# EAGLE library part PSOC_5LP_100QFP (library new-pca9306)
Cypress PSOC 5LP, 100-pin package We use the CY8C5868AXI-LP035, which has the "full" feature set: - 256k flash - 64k SRAM - 2k EEPROM - CAN - Full-speed USB - 67MHz operation
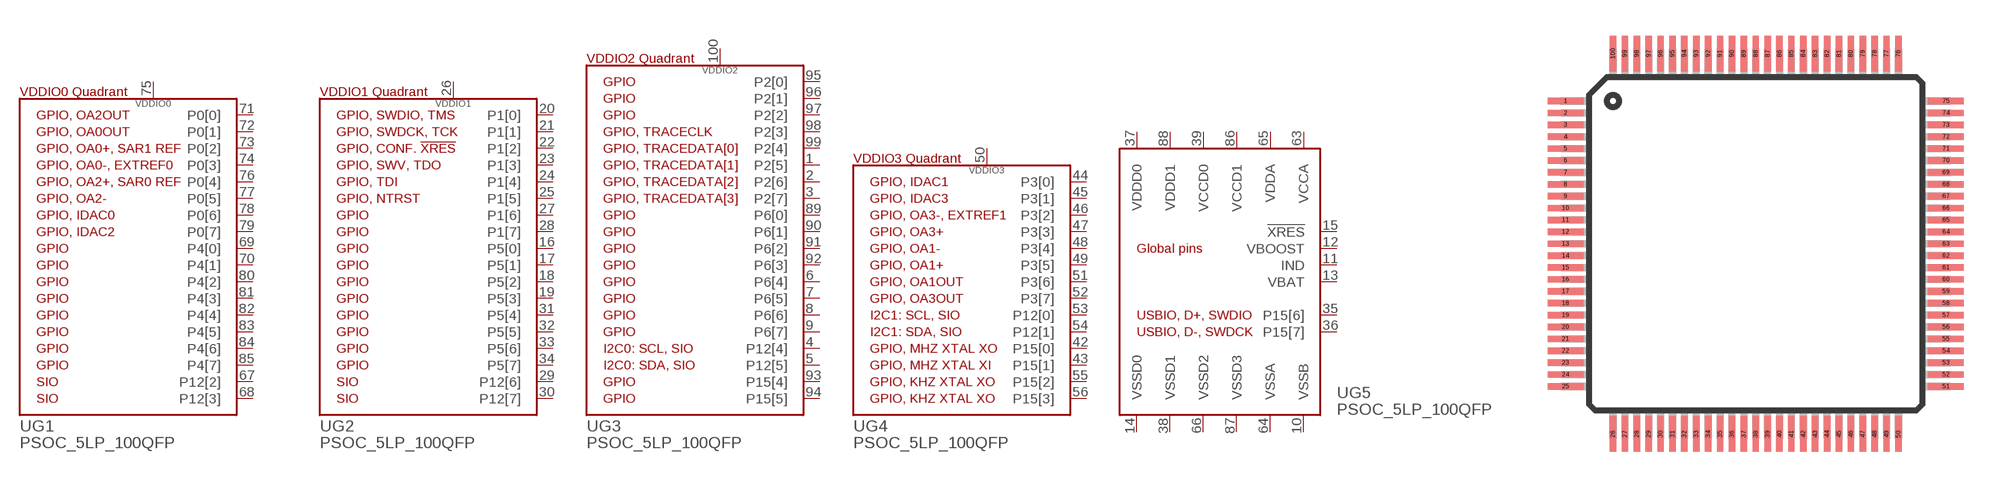
[diagram p112: symbol with the pads of TQFP-100-14X14MM; footprint TQFP-100-14X14MM]

Designator prefix U; gates G1=CY8C58LP_100QFP_VDDIO0 G2=CY8C58LP_100QFP_VDDIO1 G3=CY8C58LP_100QFP_VDDIO2 G4=CY8C58LP_100QFP_VDDIO3 G5=CY8C58LP_100QFP_VGLOBAL

## PSOC_5LP_100QFP (PROD_ID: IC-12190; VALUE: CY8C5868AXI-LP035)  [TQFP-100-14X14MM]
1  G3:P2[5]
2  G3:P2[6]
3  G3:P2[7]
4  G3:P12[4]
5  G3:P12[5]
6  G3:P6[4]
7  G3:P6[5]
8  G3:P6[6]
9  G3:P6[7]
10  G5:VSSB
11  G5:IND
12  G5:VBOOST
13  G5:VBAT
14  G5:VSSD0
15  G5:!XRES
16  G2:P5[0]
17  G2:P5[1]
18  G2:P5[2]
19  G2:P5[3]
20  G2:P1[0]
21  G2:P1[1]
22  G2:P1[2]
23  G2:P1[3]
24  G2:P1[4]
25  G2:P1[5]
26  G2:VDDIO1
27  G2:P1[6]
28  G2:P1[7]
29  G2:P12[6]
30  G2:P12[7]
31  G2:P5[4]
32  G2:P5[5]
33  G2:P5[6]
34  G2:P5[7]
35  G5:P15[6]
36  G5:P15[7]
37  G5:VDDD0
38  G5:VSSD1
39  G5:VCCD0
42  G4:P15[0]
43  G4:P15[1]
44  G4:P3[0]
45  G4:P3[1]
46  G4:P3[2]
47  G4:P3[3]
48  G4:P3[4]
49  G4:P3[5]
50  G4:VDDIO3
51  G4:P3[6]
52  G4:P3[7]
53  G4:P12[0]
54  G4:P12[1]
55  G4:P15[2]
56  G4:P15[3]
63  G5:VCCA
64  G5:VSSA
65  G5:VDDA
66  G5:VSSD2
67  G1:P12[2]
68  G1:P12[3]
69  G1:P4[0]
70  G1:P4[1]
71  G1:P0[0]
72  G1:P0[1]
73  G1:P0[2]
74  G1:P0[3]
75  G1:VDDIO0
76  G1:P0[4]
77  G1:P0[5]
78  G1:P0[6]
79  G1:P0[7]
80  G1:P4[2]
81  G1:P4[3]
82  G1:P4[4]
83  G1:P4[5]
84  G1:P4[6]
85  G1:P4[7]
86  G5:VCCD1
87  G5:VSSD3
88  G5:VDDD1
89  G3:P6[0]
90  G3:P6[1]
91  G3:P6[2]
92  G3:P6[3]
93  G3:P15[4]
94  G3:P15[5]
95  G3:P2[0]
96  G3:P2[1]
97  G3:P2[2]
98  G3:P2[3]
99  G3:P2[4]
100  G3:VDDIO2

## Footprint TQFP-100-14X14MM (pad centres in mm)
smd 1.5 x 0.27: 1 -8,6; 2 -8,5.5; 3 -8,5; 4 -8,4.5; 5 -8,4; 6 -8,3.5; 7 -8,3; 8 -8,2.5; 9 -8,2; 10 -8,1.5; 11 -8,1; 12 -8,0.5; 13 -8,0; 14 -8,-0.5; 15 -8,-1; 16 -8,-1.5; 17 -8,-2; 18 -8,-2.5; 19 -8,-3; 20 -8,-3.5; 21 -8,-4; 22 -8,-4.5; 23 -8,-5; 24 -8,-5.5; 25 -8,-6; 51 8,-6; 52 8,-5.5; 53 8,-5; 54 8,-4.5; 55 8,-4; 56 8,-3.5; 57 8,-3; 58 8,-2.5; 59 8,-2; 60 8,-1.5; 61 8,-1; 62 8,-0.5; 63 8,0; 64 8,0.5; 65 8,1; 66 8,1.5; 67 8,2; 68 8,2.5; 69 8,3; 70 8,3.5; 71 8,4; 72 8,4.5; 73 8,5; 74 8,5.5; 75 8,6
smd 0.27 x 1.5: 26 -6,-8; 27 -5.5,-8; 28 -5,-8; 29 -4.5,-8; 30 -4,-8; 31 -3.5,-8; 32 -3,-8; 33 -2.5,-8; 34 -2,-8; 35 -1.5,-8; 36 -1,-8; 37 -0.5,-8; 38 0,-8; 39 0.5,-8; 40 1,-8; 41 1.5,-8; 42 2,-8; 43 2.5,-8; 44 3,-8; 45 3.5,-8; 46 4,-8; 47 4.5,-8; 48 5,-8; 49 5.5,-8; 50 6,-8; 76 6,8; 77 5.5,8; 78 5,8; 79 4.5,8; 80 4,8; 81 3.5,8; 82 3,8; 83 2.5,8; 84 2,8; 85 1.5,8; 86 1,8; 87 0.5,8; 88 0,8; 89 -0.5,8; 90 -1,8; 91 -1.5,8; 92 -2,8; 93 -2.5,8; 94 -3,8; 95 -3.5,8; 96 -4,8; 97 -4.5,8; 98 -5,8; 99 -5.5,8; 100 -6,8